# Altium schematic symbol library TestPoint.SchLib: 1 symbol
Pins are listed as number, name and electrical type; pins without a type are passive.

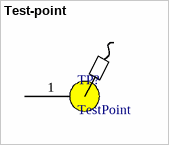
[diagram p0: symbol Test-point]

## Test-point
designator TP?, comment TestPoint  (no BOM)
SMD test point
footprint Test-point (SMD test point 60 mil)
pins: 1